# Altium footprint library WS-SLTU.PcbLib: 1 footprints
Each footprint in its own frame and in the unit in brackets; x right, y up, seen from the top. Pads: shape width x height; smd on the part's side, far side on the other; paste and mask are expansions set on the pad; w line width, h text height; cw(c..) or ccw(c..) is an arc to the next point about the centre after c.
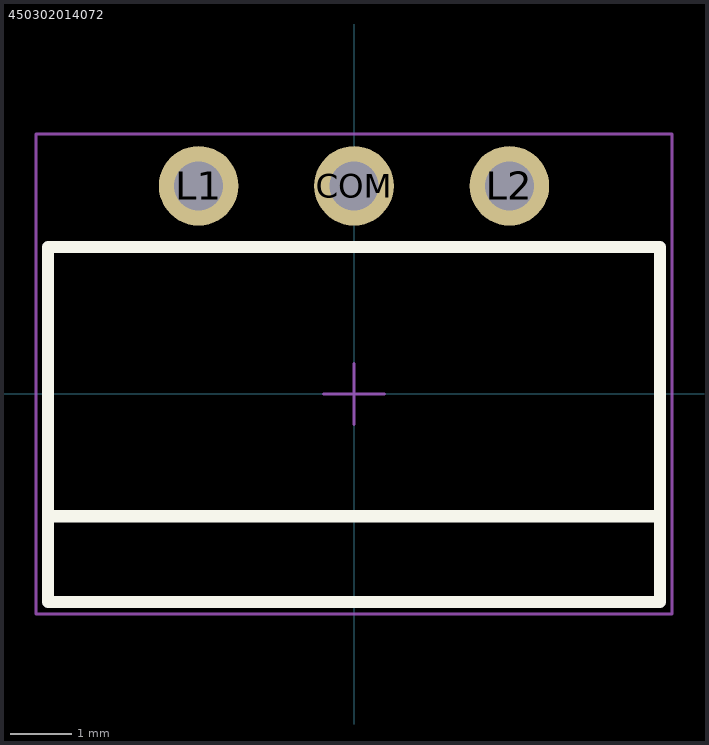
[diagram p0: the footprint, top view; thin cyan lines are the x and y axes]

## 450302014072 [mm] "10mm*2.5mm. SPDT, ON-ON, 2.54mm, right-angle type, THT, bulk"
height 2.5
pads (3):
  round 1.3 hole 0.8: COM(0,3.4) L1(-2.54,3.4) L2(2.54,3.4)
Top Overlay:
  lines w0.2: -5,-2 5,-2 ; -5,-3.4 -5,2.4 5,2.4 5,-3.4 -5,-3.4
Top Designator:
  text ".Designator" at -7.498,-0.5 h1.5
Top Component Outline:
  lines w0.1: -5,-2 5,-2 ; -5,-3.4 5,-3.4 5,2.4 -5,2.4 -5,-3.4
Top Courtyard:
  lines w0.05: -0.5,0 0.5,0 ; 0,-0.5 0,0.5 ; -5.2,-3.6 5.2,-3.6 5.2,4.25 -5.2,4.25 -5.2,-3.6
3D body "450302014072.stp": height 2.55, standoff -3.65, extent -5,-3.4 5,3.7